# EAGLE library part BSC060N10NS3GATMA1 (library BSC060N10NS3GATMA1)
N-Channel 100 V 14.9A (Ta), 90A (Tc) 125W (Tc) Surface Mount PG-TDSON-8-1 MOSFET N-CH 100V 14.9/90A 8TDSON Source: Datasheet <https://www.infineon.com/dgdl/Infineon-BSC060N10NS3 G-DataSheet-v02_05-EN.pdf?fileId=db3a30431ce5fb52011d1aab7f90133a>
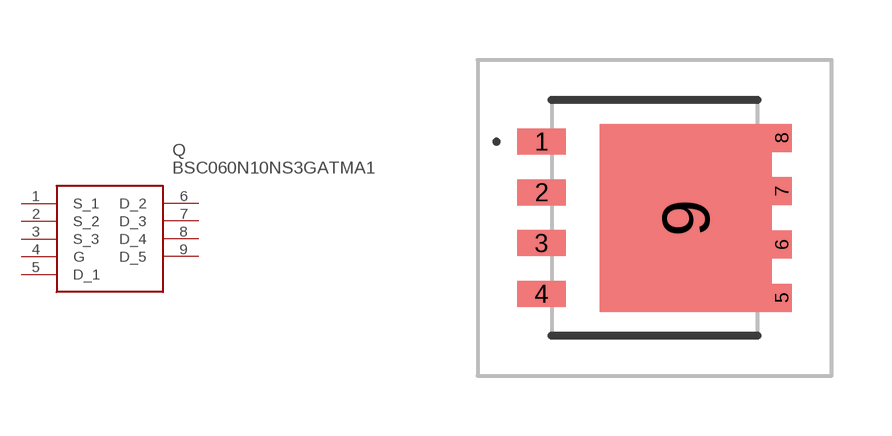
[diagram p0: symbol with the pads of BSC060N10NS3GATMA1; footprint BSC060N10NS3GATMA1]

Designator prefix Q

## BSC060N10NS3GATMA1 (Description: N-Channel 100 V 14.9A (Ta), 90A (Tc) 125W (Tc) Surface Mount PG-TDSON-8-1 MOSFET N-CH 100V 14.9/90A 8TDSON; Height: 1.1mm; Manufacturer_Name: Infineon; Manufacturer_Part_Number: BSC060N10NS3GATMA1; Mouser_Part_Number: 726-BSC060N10NS3GATM; Mouser_Price-Stock: https://www.mouser.co.uk/ProductDetail/Infineon-Technologies/BSC060N10NS3GATMA1?qs=K00xGehIljsfoJ1fZPGMDg%3D%3D)  [BSC060N10NS3GATMA1]
1  S_1
2  S_2
3  S_3
4  G
5  D_1
6  D_2
7  D_3
8  D_4
9  D_5

## Footprint BSC060N10NS3GATMA1 (pad centres in mm)
SUPERSO8_2022
smd 1.2 x 0.65: 1 -2.825,1.905; 2 -2.825,0.635; 3 -2.825,-0.635; 4 -2.825,-1.905
smd 0.5 x 0.7: 5 3.175,-2; 8 3.175,2
smd 0.5 x 0.705: 6 3.175,-0.668; 7 3.175,0.668
smd 4.3 x 4.7: 9 0.775,0